# Altium footprint library Conectors.PcbLib: 1 footprints
Each footprint in its own frame and in the unit in brackets; x right, y up, seen from the top. Pads: shape width x height; smd on the part's side, far side on the other; paste and mask are expansions set on the pad; w line width, h text height; cw(c..) or ccw(c..) is an arc to the next point about the centre after c.
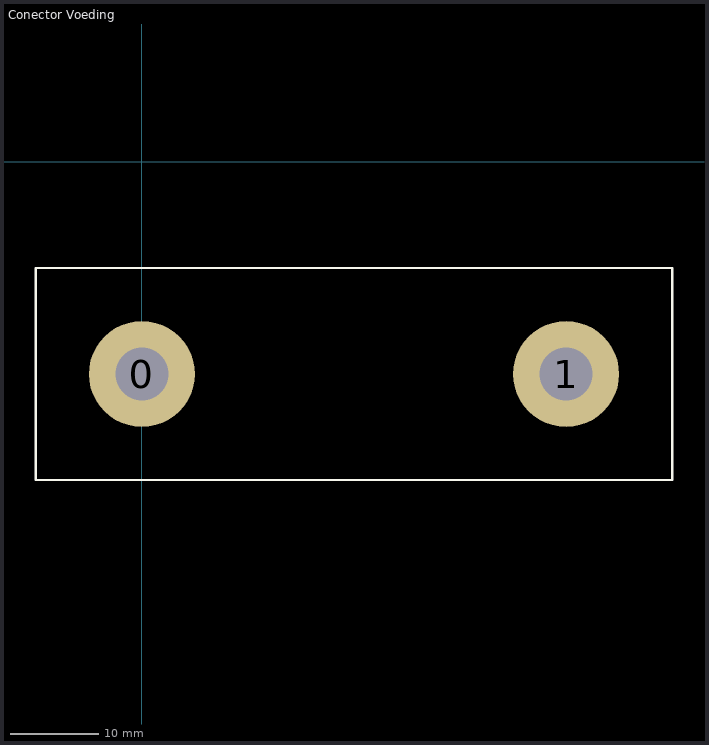
[diagram p0: the footprint, top view; thin cyan lines are the x and y axes]

## Conector Voeding [mm]
pads (2):
  round 12 hole 6: 0(0,-24) 1(48,-24)
Top Overlay:
  lines w0.254: -12,-36 -12,-12 60,-12 60,-36 -12,-36